# EAGLE library part I7C4W012A050V-002-R (library linear-tdk-Lamba)
Check prices <https://pricing.snapeda.com/parts/I7C4W012A050V-002-R/TDK-Lambda%20Americas%20Inc/view-part?ref=eda>
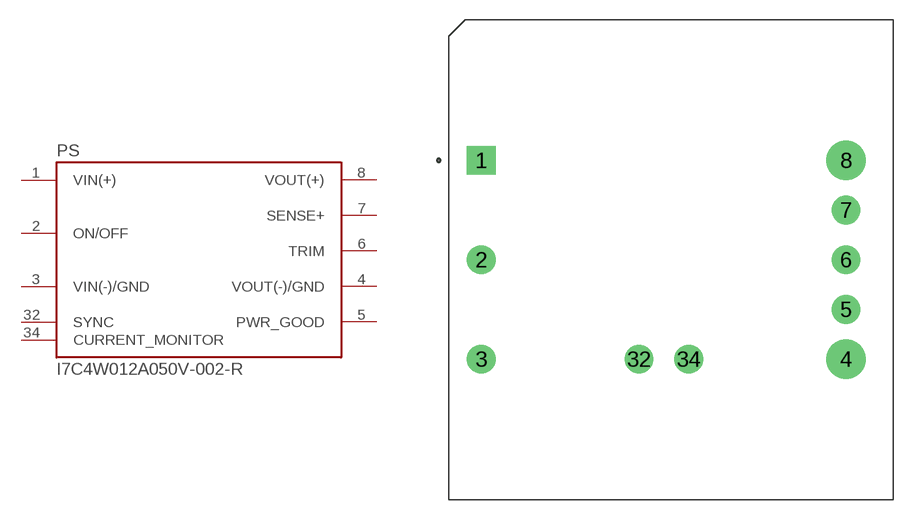
[diagram p5: symbol with the pads of CONV_I7C4W012A050V-002-R; footprint CONV_I7C4W012A050V-002-R]

Designator prefix PS

## I7C4W012A050V-002-R (AVAILABILITY: In Stock; DESCRIPTION: Non-Isolated PoL Module DC DC Converter 1 Output 5 ~ 28V 12.5A 9V - 53V Input; MF: TDK-Lambda Americas Inc; MP: I7C4W012A050V-002-R; PACKAGE: DIP-8 TDK-Lambda; PRICE: None; PURCHASE-URL: https://pricing.snapeda.com/search/part/I7C4W012A050V-002-R/?ref=eda)  [CONV_I7C4W012A050V-002-R]
1  VIN(+)  in
2  ON/OFF  in
3  VIN(-)/GND  in
4  VOUT(-)/GND  out
5  PWR_GOOD  out
6  TRIM  pas
7  SENSE+  in
8  VOUT(+)  out
32  SYNC  in
34  CURRENT_MONITOR  in

## Footprint CONV_I7C4W012A050V-002-R (pad centres in mm)
drill 1.47 square: 1 -13.97,7.615
drill 1.47: 2 -13.97,-0.005; 3 -13.97,-7.625; 5 13.97,-3.815; 6 13.97,-0.005; 7 13.97,3.805; 32 -1.9,-7.625; 34 1.91,-7.625
drill 2.02: 4 13.97,-7.625; 8 13.97,7.615